# EAGLE library part MOUDLE-GPS-NEO-6M(24P-16X12.2MM) (library Seeed-OPL-Moudle)
317050000
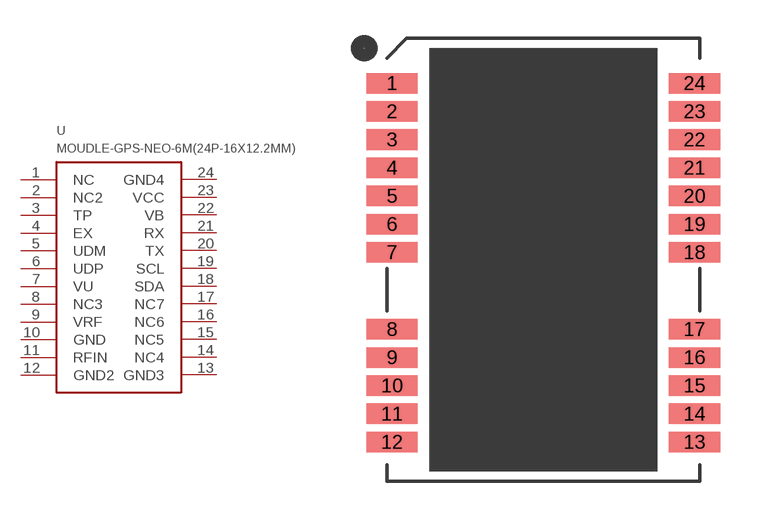
[diagram p2: symbol with the pads of GPS24P-SMD-1.1-16X12.2MM; footprint GPS24P-SMD-1.1-16X12.2MM]

Designator prefix U

## MOUDLE-GPS-NEO-6M(24P-16X12.2MM) (MPN: NEO-6M-GPS; VALUE: 24p-16x12.2x2.4mm)  [GPS24P-SMD-1.1-16X12.2MM]
1  NC
2  NC2
3  TP
4  EX
5  UDM
6  UDP
7  VU
8  NC3
9  VRF
10  GND
11  RFIN
12  GND2
13  GND3
14  NC4
15  NC5
16  NC6
17  NC7
18  SDA
19  SCL
20  TX
21  RX
22  VB
23  VCC
24  GND4

## Footprint GPS24P-SMD-1.1-16X12.2MM (pad centres in mm)
smd 2 x 0.8: 1 -5.904,6.888; 2 -5.904,5.788; 3 -5.904,4.688; 4 -5.904,3.588; 5 -5.904,2.488; 6 -5.904,1.388; 7 -5.904,0.288; 8 -5.904,-2.712; 9 -5.904,-3.812; 10 -5.904,-4.912; 11 -5.904,-6.012; 12 -5.904,-7.112; 13 5.896,-7.112; 14 5.896,-6.012; 15 5.896,-4.912; 16 5.896,-3.812; 17 5.896,-2.712; 18 5.896,0.288; 19 5.896,1.388; 20 5.896,2.488; 21 5.896,3.588; 22 5.896,4.688; 23 5.896,5.788; 24 5.896,6.888